# EAGLE library part MT25QL01GBBB1EW9-0SIT (library My_Library)
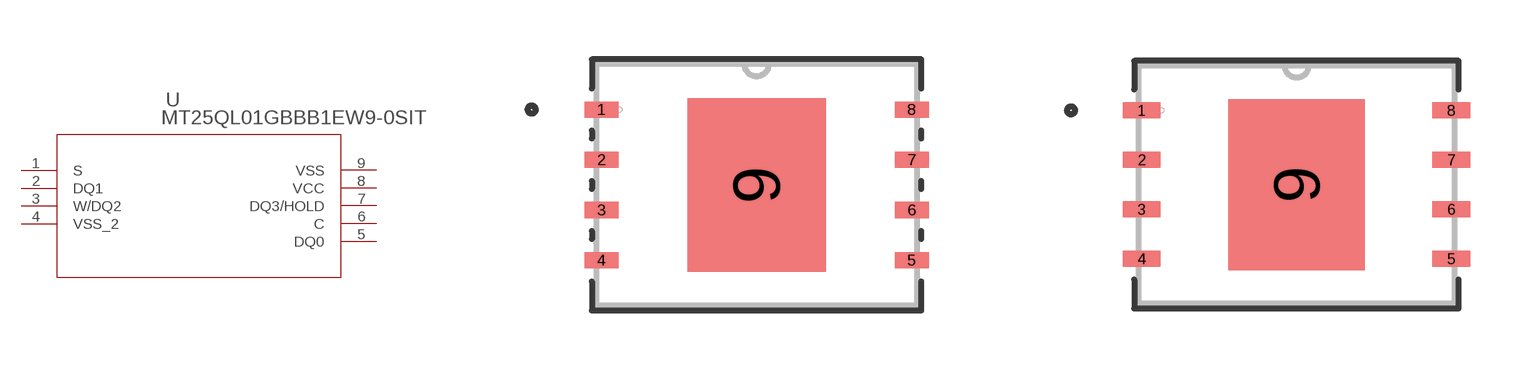
[diagram p8: symbol with the pads of W-PDFN8(MLP8)_W9_MRN; footprints W-PDFN8(MLP8)_W9_MRN, W-PDFN8(MLP8)_W9_MRN-M]

Designator prefix U

## MT25QL01GBBB1EW9-0SIT (COPYRIGHT: Copyright (C) 2024 Ultra Librarian. All rights reserved.; MANUFACTURER_PART_NUMBER: MT25QL01GBBB1EW9-0SIT; MFR_NAME: Micron)  [W-PDFN8(MLP8)_W9_MRN]
1  S  in
2  DQ1
3  W/DQ2
4  VSS_2  pas
5  DQ0
6  C  in
7  DQ3/HOLD
8  VCC  pwr
9  VSS  pas

## MT25QL01GBBB1EW9-0SITW-PDFN8(MLP8)_W9_MRN-M (COPYRIGHT: Copyright (C) 2024 Ultra Librarian. All rights reserved.; MANUFACTURER_PART_NUMBER: MT25QL01GBBB1EW9-0SIT; MFR_NAME: Micron)  [W-PDFN8(MLP8)_W9_MRN-M]
Pads as for W-PDFN8(MLP8)_W9_MRN

## MT25QL01GBBB1EW9-0SITW-PDFN8(MLP8)_W9_MRN-L (COPYRIGHT: Copyright (C) 2024 Ultra Librarian. All rights reserved.; MANUFACTURER_PART_NUMBER: MT25QL01GBBB1EW9-0SIT; MFR_NAME: Micron)  [W-PDFN8(MLP8)_W9_MRN-L]
Pads as for W-PDFN8(MLP8)_W9_MRN

## Footprint W-PDFN8(MLP8)_W9_MRN (pad centres in mm)
smd 0.864 x 0.406: 1 -3.924,1.905; 2 -3.924,0.635; 3 -3.924,-0.635; 4 -3.924,-1.905; 5 3.924,-1.905; 6 3.924,-0.635; 7 3.924,0.635; 8 3.924,1.905
smd 3.505 x 4.394: 9 0,0

## Footprint W-PDFN8(MLP8)_W9_MRN-M (pad centres in mm)
smd 0.965 x 0.406: 1 -3.975,1.905; 2 -3.975,0.635; 3 -3.975,-0.635; 4 -3.975,-1.905; 5 3.975,-1.905; 6 3.975,-0.635; 7 3.975,0.635; 8 3.975,1.905
smd 3.505 x 4.394: 9 0,0

## Footprint W-PDFN8(MLP8)_W9_MRN-L (pad centres in mm)
smd 0.762 x 0.406: 1 -3.873,1.905; 2 -3.873,0.635; 3 -3.873,-0.635; 4 -3.873,-1.905; 5 3.873,-1.905; 6 3.873,-0.635; 7 3.873,0.635; 8 3.873,1.905
smd 3.505 x 4.394: 9 0,0